# Altium schematic symbol library SPX5205M5-L_TR.SchLib: 1 symbol
Pins are listed as number, name and electrical type; pins without a type are passive.

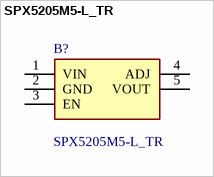
[diagram p0: symbol SPX5205M5-L_TR]

## SPX5205M5-L_TR
designator B?
LDO Voltage Regulators 150mA LOW NOISE LDO; Manufacturer_Name: MaxLinear, Inc.; Manufacturer_Part_Number: SPX5205M5-L/TR; Geometry.Height: 1.45mm; Mouser Part Number: 701-SPX5205M5-L/TR; Mouser Price/Stock: https://www.mouser.co.uk/ProductDetail/MaxLinear/SPX5205M5-L-TR?qs=S%2FCBhQS5rCqlkl0UDVhMhQ%3D%3D; Datasheet Link: https://www.mouser.fr/datasheet/2/146/SPX5205-1889004.pdf
footprint SOT95P280X145-5N
pins: 1 VIN, 2 GND, 3 EN, 4 ADJ, 5 VOUT